# EAGLE library part ENCODER_2591 (library Pololu Encoder and Motor Driver)
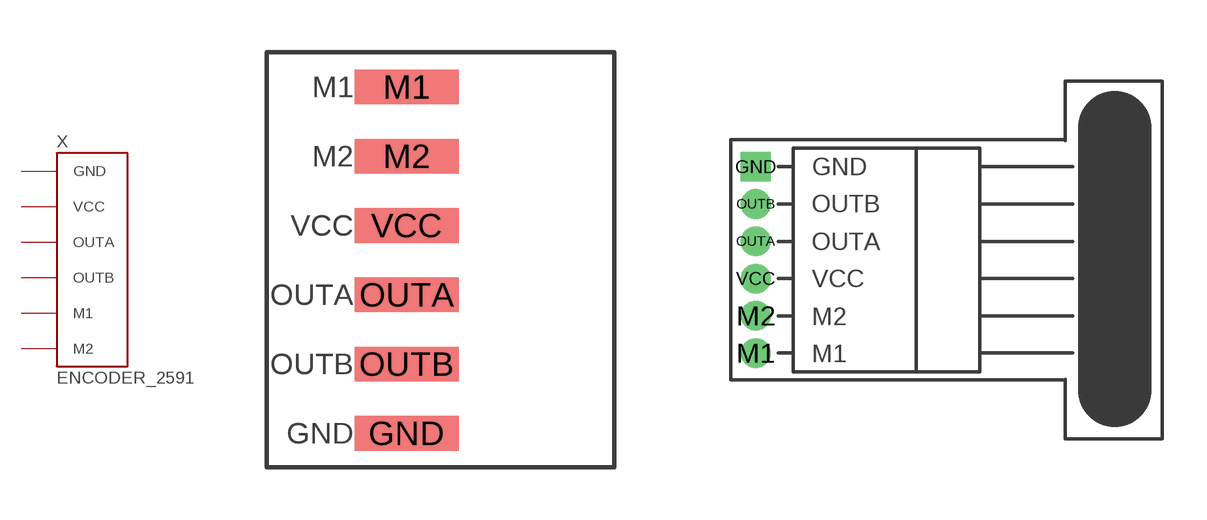
[diagram p1: symbol with the pads of ENCODER_2591; footprints ENCODER_2591, ENCODER_2591_THT]

Designator prefix X

## ENCODER_2591 (DESCRIPTION: Only connectors, nothing to populate)  [ENCODER_2591]
GND  GND
M1  M1
M2  M2
OUTA  OUTA
OUTB  OUTB
VCC  VCC

## ENCODER_2591ENCODER_2591_THT  [ENCODER_2591_THT]
Pads as for ENCODER_2591

## ENCODER_2591ENCODER_2591_MICRO_MATCH  [SOCKET_TE_MICRO_MATCH_SMD]
P$1  GND
P$2  OUTB
P$3  OUTA
P$4  VCC
P$5  M2
P$6  M1

## Footprint ENCODER_2591 (pad centres in mm)
smd 3 x 1: GND 0.01,-5.01; M1 0.01,4.99; M2 0.01,2.99; OUTA 0.01,-1.01; OUTB 0.01,-3.01; VCC 0.01,0.99

## Footprint ENCODER_2591_THT (pad centres in mm)
drill 0.5 pad 0.813 square: GND -4.445,3.175
drill 0.5 pad 0.813: M1 -4.445,-3.175; M2 -4.445,-1.905; OUTA -4.445,0.635; OUTB -4.445,1.905; VCC -4.445,-0.635

## Footprint SOCKET_TE_MICRO_MATCH_SMD (pad centres in mm)
smd 1.5 x 3: P$1 -3.175,2.286; P$2 -1.905,-2.286; P$3 -0.635,2.286; P$4 0.635,-2.286; P$5 1.905,2.286; P$6 3.175,-2.286